# EAGLE library part MMA7660FC (library IC)
http://search.digikey.com/scripts/DkSearch/dksus.dll?Detail&name=MMA7660FCT-ND
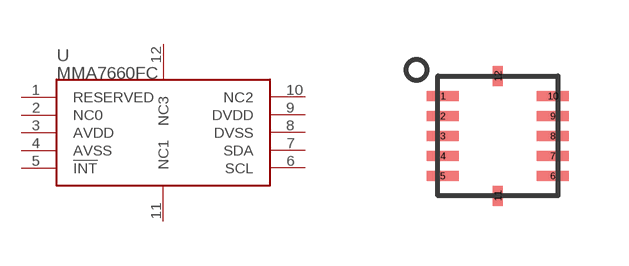
[diagram p108: symbol with the pads of DFN10; footprint DFN10]

Designator prefix U

## MMA7660FC-DFN10  [DFN10]
1  RESERVED
2  NC0
3  AVDD
4  AVSS
5  !INT
6  SCL
7  SDA
8  DVSS
9  DVDD
10  NC2
11  NC1
12  NC3

## Footprint DFN10 (pad centres in mm)
smd 0.8 x 0.25: 1 -1.375,1; 2 -1.375,0.5; 3 -1.375,0; 4 -1.375,-0.5; 5 -1.375,-1; 6 1.375,-1; 7 1.375,-0.5; 8 1.375,0; 9 1.375,0.5; 10 1.375,1
smd 0.25 x 0.5: 11 0,-1.5; 12 0,1.5